# EAGLE library part DS1881 (library 1AA_Stofer)
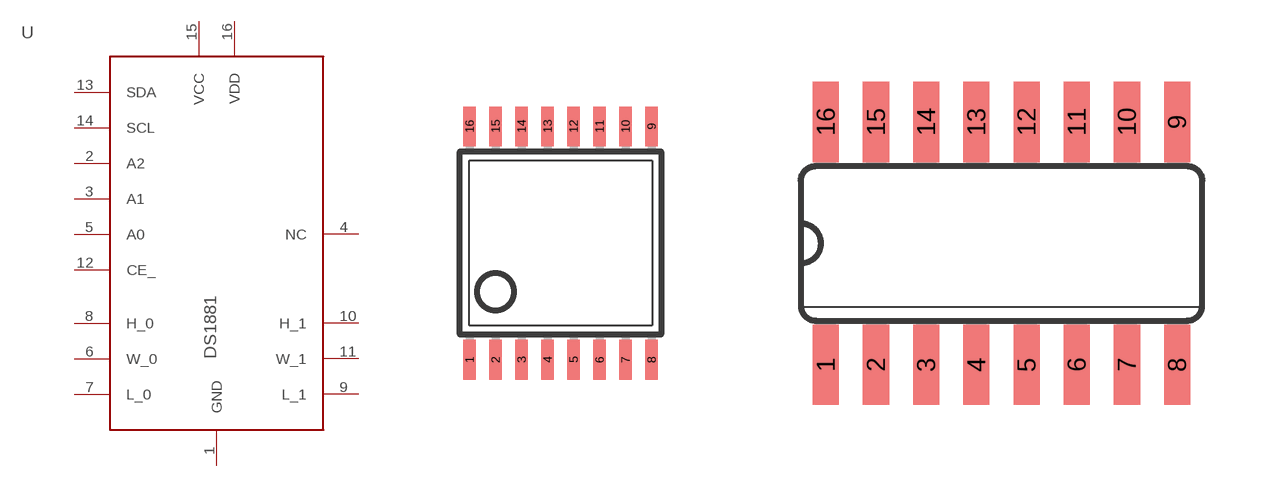
[diagram p24: symbol with the pads of TSSOP16; footprints TSSOP16, SO16]

Designator prefix -

## DS1881TSSOP  [TSSOP16]
1  GND
2  A2
3  A1
4  NC
5  A0
6  W_0
7  L_0
8  H_0
9  L_1
10  H_1
11  W_1
12  CE_
13  SDA
14  SCL
15  VCC
16  VDD

## DS1881SO  [SO16]
Pads as for TSSOP16

## Footprint TSSOP16 (pad centres in mm)
Thin Shrink Small Outline Plastic 16 http://www.maxim-ic.com .. MAX3223-MAX3243.pdf
smd 0.305 x 0.991: 1 -2.275,-2.918; 2 -1.625,-2.918; 3 -0.975,-2.918; 4 -0.325,-2.918; 5 0.325,-2.918; 6 0.975,-2.918; 7 1.625,-2.918; 8 2.275,-2.918; 9 2.275,2.918; 10 1.625,2.918; 11 0.975,2.918; 12 0.325,2.918; 13 -0.325,2.918; 14 -0.975,2.918; 15 -1.625,2.918; 16 -2.275,2.918

## Footprint SO16 (pad centres in mm)
Small Outline Package
smd 0.66 x 2.032: 1 0.635,-1.803; 2 1.905,-1.803; 3 3.175,-1.803; 4 4.445,-1.803; 5 5.715,-1.803; 6 6.985,-1.803; 7 8.255,-1.803; 8 9.525,-1.803; 9 9.525,4.343; 10 8.255,4.343; 11 6.985,4.343; 12 5.715,4.343; 13 4.445,4.343; 14 3.175,4.343; 15 1.905,4.343; 16 0.635,4.343